# EAGLE library part RJ45 (library BaseApp)
Digikey No. :- __380-1279-ND__
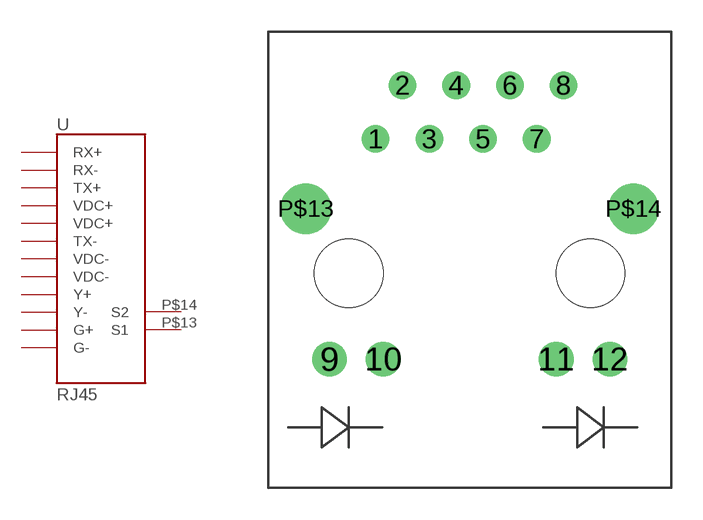
[diagram p118: symbol with the pads of RJ-45-NOMAGNETICS_BI-LED; footprint RJ-45-NOMAGNETICS_BI-LED]

Designator prefix -

## RJ45  [RJ-45-NOMAGNETICS_BI-LED]
1  RX+
2  RX-
3  TX+
4  VDC+
5  VDC+
6  TX-
7  VDC-
8  VDC-
9  Y+
10  Y-
11  G+
12  G-
P$13  S1
P$14  S2

## Footprint RJ-45-NOMAGNETICS_BI-LED (pad centres in mm)
drill 0.8: 1 0,0; 2 1.27,2.54; 3 2.54,0; 4 3.81,2.54; 5 5.08,0; 6 6.35,2.54; 7 7.62,0; 8 8.89,2.54
drill 1.1: 9 -2.18,-10.42; 10 0.36,-10.42; 11 8.54,-10.42; 12 11.08,-10.42
drill 1.6: P$13 -3.3,-3.3; P$14 12.19,-3.3
hole 3.25 at -1.27,-6.35
hole 3.25 at 10.16,-6.35